# Altium footprint library 7499011121A.PcbLib: 1 footprints
Each footprint in its own frame and in the unit in brackets; x right, y up, seen from the top. Pads: shape width x height; smd on the part's side, far side on the other; paste and mask are expansions set on the pad; w line width, h text height; cw(c..) or ccw(c..) is an arc to the next point about the centre after c.
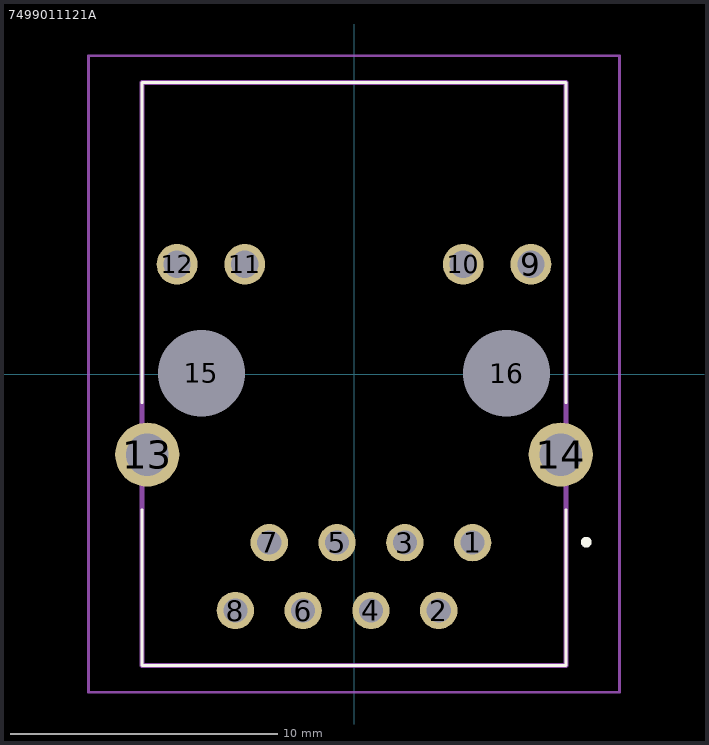
[diagram p0: the footprint, top view; thin cyan lines are the x and y axes]

## 7499011121A [mm]
pads (16):
  round 1.4 hole 0.9: 1(4.445,-6.32) 2(3.175,-8.86) 3(1.905,-6.32) 4(0.635,-8.86) 5(-0.635,-6.32) 6(-1.905,-8.86) 7(-3.175,-6.32) 8(-4.445,-8.86)
  round 1.53 hole 1.02: 9(6.63,4.11) 10(4.09,4.11) 11(-4.09,4.11) 12(-6.63,4.11)
  round 2.4 hole 1.6: 13(-7.745,-3.02) 14(7.745,-3.02)
  round 1.625 hole 3.25 unplated: 15(-5.715,0.03) 16(5.715,0.03)
Top Overlay:
  lines w0.1: -7.94,-5.08 -7.94,-10.92 7.94,-10.92 7.94,-5.08 ; -7.94,-1.08 -7.94,10.92 7.94,10.92 7.94,-1.08
  lines w0.2: 8.7,-6.4 8.7,-6.4 ; 8.7,-6.4 cw(c8.7,-6.3) 8.7,-6.2 ; 8.7,-6.4 ccw(c8.7,-6.3) 8.7,-6.2 ; 8.7,-6.2 8.7,-6.2
Mechanical 15:
  lines w0.2: -7.94,-10.92 7.94,-10.92 7.94,10.92 -7.94,10.92 -7.94,-10.92
Mechanical 20:
  lines w0.1: -9.945,-11.92 9.945,-11.92 9.945,11.92 -9.945,11.92 -9.945,-11.92
3D body "7499011121A.stp": height 5.8, standoff -4.65, extent -10,-3.376 10,3.376